# EAGLE library part ESQ-104-XX-X-D (library ssc_32u_power_board)
ELEVATED SOCKET, .100 inch(2.54mm) PITCH
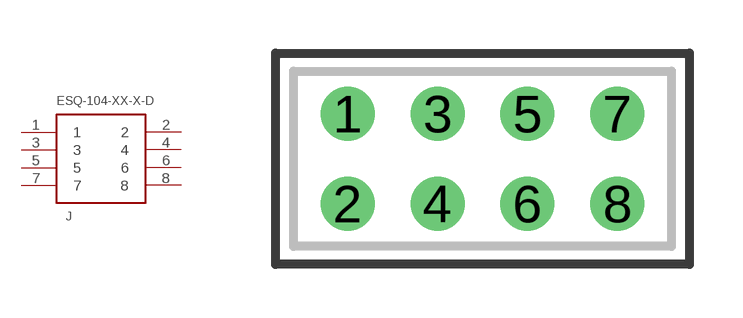
[diagram p0: symbol with the pads of ESQ-104-XX-X-D; footprint ESQ-104-XX-X-D]

Designator prefix J

## ESQ-104-XX-X-D  [ESQ-104-XX-X-D]
1  1
2  2
3  3
4  4
5  5
6  6
7  7
8  8

## Footprint ESQ-104-XX-X-D (pad centres in mm)
ELEVATED SOCKET, .100 inch(2.54mm) PITCH
drill 1.016 pad 1.524: 1 -3.81,1.27; 2 -3.81,-1.27; 3 -1.27,1.27; 4 -1.27,-1.27; 5 1.27,1.27; 6 1.27,-1.27; 7 3.81,1.27; 8 3.81,-1.27